# EAGLE library part LCC110 (library relay)
OptoMOS® Relay 1-Form-C, Clare
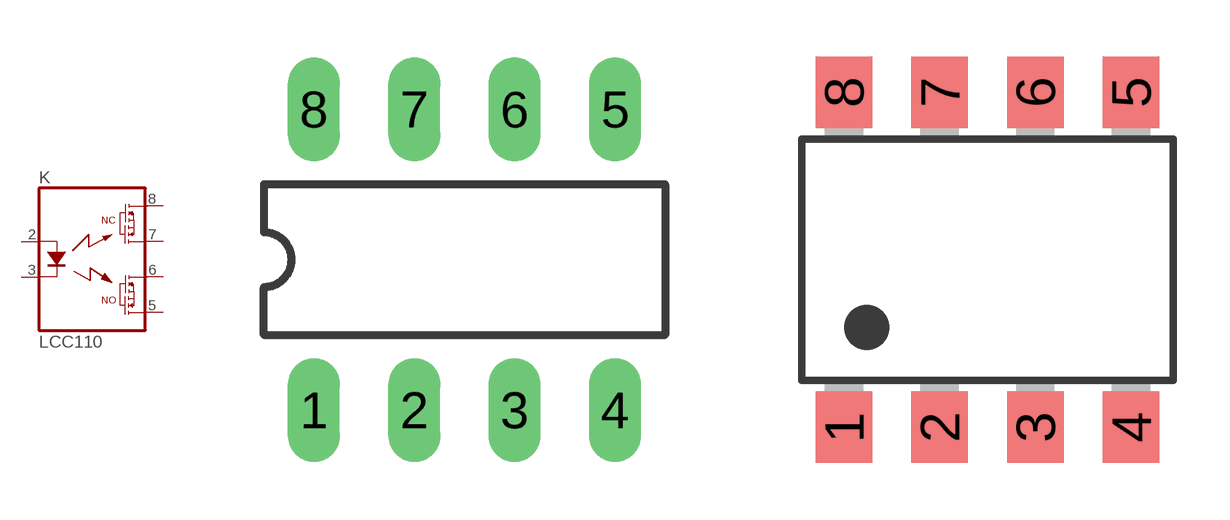
[diagram p56: symbol with the pads of DIL08; footprints DIL08, DIL08SMD]

Designator prefix K

## LCC110  [DIL08]
2  A  pas
3  K  pas
5  NOP2  pas
6  NOP1  pas
7  NCP2  pas
8  NCP1  pas

## LCC110S  [DIL08SMD]
Pads as for DIL08

## Footprint DIL08 (pad centres in mm)
Dual In Line Package
drill 0.813 long: 1 -3.81,-3.81; 2 -1.27,-3.81; 3 1.27,-3.81; 4 3.81,-3.81; 5 3.81,3.81; 6 1.27,3.81; 7 -1.27,3.81; 8 -3.81,3.81

## Footprint DIL08SMD (pad centres in mm)
DIL08
smd 1.5 x 1.9: 1 -3.81,-4.45; 2 -1.27,-4.45; 3 1.27,-4.45; 4 3.81,-4.45; 5 3.81,4.45; 6 1.27,4.45; 7 -1.27,4.45; 8 -3.81,4.45